# Altium footprint library Inductors.PcbLib: 4 footprints
Each footprint in its own frame and in the unit in brackets; x right, y up, seen from the top. Pads: shape width x height; smd on the part's side, far side on the other; paste and mask are expansions set on the pad; w line width, h text height; cw(c..) or ccw(c..) is an arc to the next point about the centre after c.
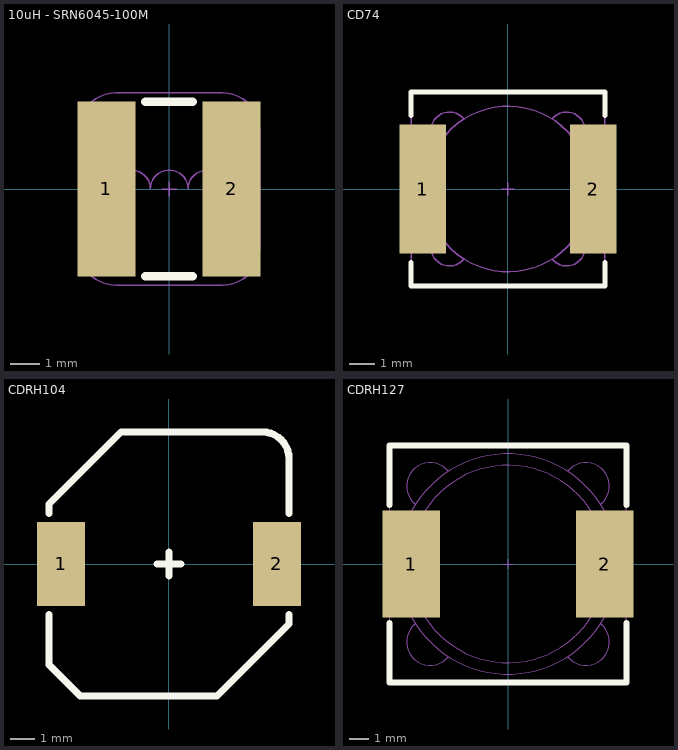
[diagram p0: the footprints below, top view; thin cyan lines are the x and y axes]

## 10uH - SRN6045-100M [mm] "FIXED IND 10UH 2.5A 58.6MOHM SMD"
height 4.5
pads (2):
  rect 2x6 smd: 1(-2.159,0) 2(2.141,0)
Top Overlay:
  lines w0.3: -0.826,-3 0.8,-3 ; -0.826,3 0.8,3
Top HCB:
  lines w0.05: -3.1,0 -1.95,0 cw(c-1.3,0) -0.65,0 cw(c0,0) 0.65,0 cw(c1.3,0) 1.95,0 3.1,0 ; -0.25,0 0.25,0 ; 0,-0.25 0,0.25 ; -3.1,-2.03 ccw(c-1.83,-2.03) -1.83,-3.3 -1.6,-3.3 1.6,-3.3 1.83,-3.3 ccw(c1.83,-2.03) 3.1,-2.03 3.1,2.03 ccw(c1.83,2.03) 1.83,3.3 1.6,3.3 -1.6,3.3 -1.83,3.3 ccw(c-1.83,2.03) -3.1,2.03 -3.1,-2.03
3D body "SRN6045-100M.stp": height 4.5, standoff 0, extent -3,-3 3,3

## CD74 [mm] "7x7x4mm"
pads (2):
  rect 1.8x5 smd: 1(-3.3,0) 2(3.3,0)
Top Overlay:
  lines w0.2: -3.75,-2.85 -3.75,-3.75 3.75,-3.75 3.75,-2.85 ; -3.75,2.85 -3.75,3.75 3.75,3.75 3.75,2.85
Top HCB:
  circle w0.05: c0,0 r3.2
  lines w0.05: -2.712,-1.71 ccw(c-2.263,-2.263) -1.718,-2.723 ; -2.712,1.71 cw(c-2.263,2.263) -1.718,2.723 ; -0.25,0 0.25,0 ; 0,-0.25 0,0.25 ; 1.718,-2.723 ccw(c2.263,-2.263) 2.712,-1.71 ; 1.718,2.723 cw(c2.263,2.263) 2.712,1.71 ; -3.75,-3.75 3.75,-3.75 3.75,3.75 -3.75,3.75 -3.75,-3.75
3D body "User Library-Line Filter 7_3x7_3x4_2H.STEP": height 4.2, standoff -0.09, extent -3.7,-3.69 3.7,3.61

## CDRH104 [mm] "CD104 100uH 10x10x4mm"
height 4
pads (2):
  rect 2x3.5 smd: 1(-4.5,0) 2(4.5,0)
Top Overlay:
  lines w0.3: -5,-2.1 -5,-4.2 -3.7,-5.5 2,-5.5 5,-2.5 5,-2.1 ; -5,2.1 -5,2.5 -2,5.5 3.9,5.5 cw(c3.9,4.4) 5,4.4 5,2.1 ; -0.5,0 0.5,0 ; 0,-0.5 0,0.5
Top HCB:
  lines w0.05: -0.25,0 0.25,0 ; 0,-0.25 0,0.25
3D body "User Library-cdrh104r.STEP": height 4, standoff 0, extent -5.25,-5.1 5.25,5.2

## CDRH127 [mm] "FIXED IND L127 SMD"
height 8
pads (2):
  rect 2.9x5.4 smd: 1(-4.9,0) 2(4.9,0)
Top Overlay:
  lines w0.3: -6,-3 -6,-6 6,-6 6,-3 ; -6,3 -6,6 6,6 6,3
Top HCB:
  circle w0.05: c0,0 r5.58
  circle w0.05: c0,0 r5
  lines w0.05: -4.7,-3.025 ccw(c-3.946,-3.946) -3.023,-4.697 ; -4.7,3.025 cw(c-3.946,3.946) -3.023,4.697 ; -0.25,0 0.25,0 ; 0,-0.25 0,0.25 ; 3.023,-4.697 ccw(c3.946,-3.946) 4.7,-3.025 ; 3.023,4.697 cw(c3.946,3.946) 4.7,3.025 ; -6,-6 6,-6 6,6 -6,6 -6,-6
3D body "User Library-CDRH127-1.STEP": height 8.5, standoff 0.3, extent -6,-6 6,6